# Altium integrated library Silicon Labs Clocks and Oscillators.IntLib: 678 symbols (part 10 of 45)
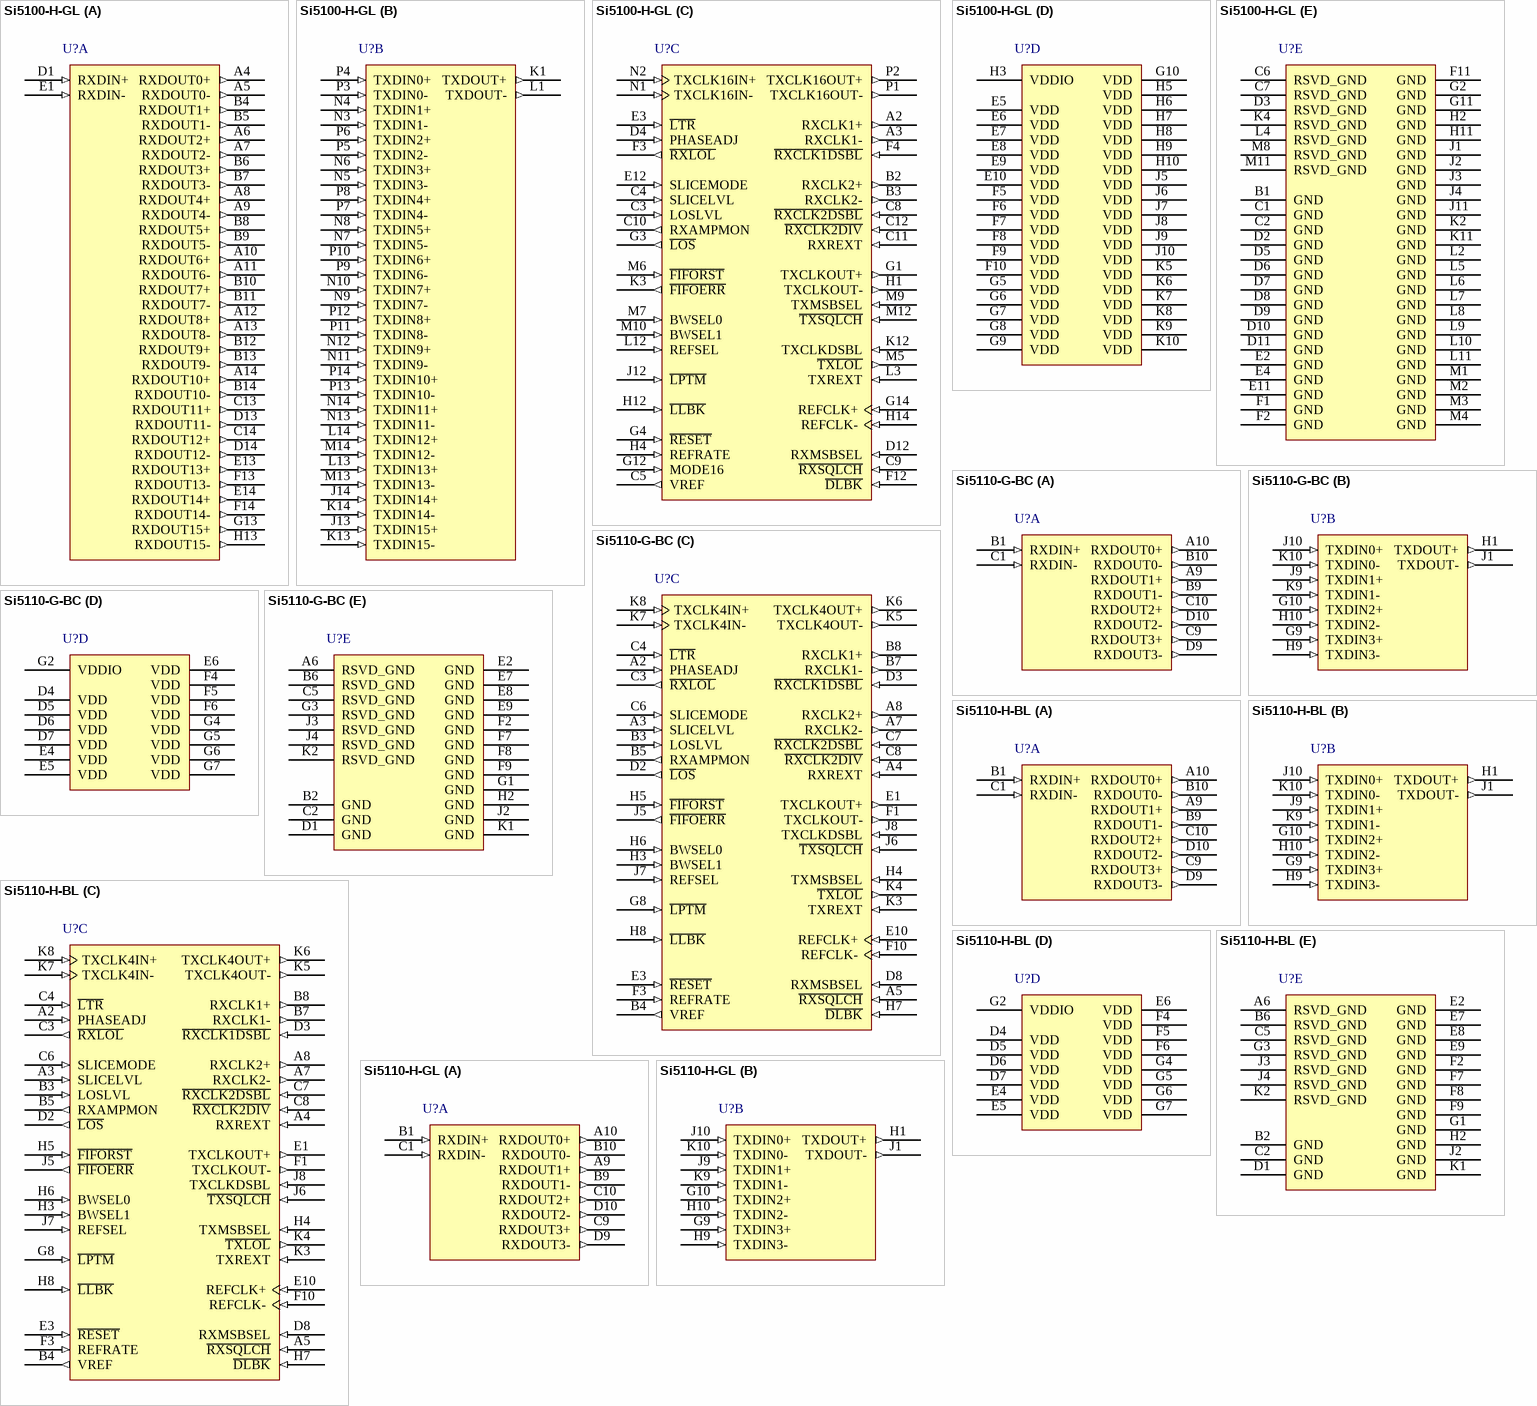
[diagram p53: symbols Si5100-H-GL to Si5110-H-GL]

## Si5100-H-GL
designator U?
SiPHY(R) OC-48 / STM-16 SONET / SDH Transceiver, 1.8 V, -20 to 85 degC, 195-pin BGA; Manufacturer: Silicon Labs; PartNumber: Si5100-H-GL; Sub-Family: CDR/PHYs; DatasheetVersion: Rev. 1.5; PackageReference: PBGA-195; PackageDescription: 195-Ball Plastic Ball Grid Array, Body 15 x 15 mm, Pitch 1 mm; Supplier 1: Digi-Key; Supplier Part Number 1: SI5100-H-GL-ND; Supplier 2: Mouser; Supplier Part Number 2: 634-SI5100-H-GL; Mounting Technology: Surface Mount; Code_JEDEC: MO-192; Code_IPC: J-STD-020C; ComponentLink1Description: Manufacturer URL; ComponentLink1URL: http://www.silabs.com/; ComponentLink2Description: Datasheet; ComponentLink2URL: http://www.silabs.com/Support Documents/TechnicalDocs/si5100.pdf; ComponentLink3Description: Package Specification; ComponentLink3URL: http://www.silabs.com/Support Documents/TechnicalDocs/si5100.pdf
footprint SLAB-PBGA-195 (BGA, 195-Balls, Body 15x15mm, Pitch 1mm)
part A pins: A4 RXDOUT0+ (out) "Differential Parallel Receive Data Output.", A5 RXDOUT0- (out) "Differential Parallel Receive Data Output.", A6 RXDOUT2+ (out) "Differential Parallel Receive Data Output.", A7 RXDOUT2- (out) "Differential Parallel Receive Data Output.", A8 RXDOUT4+ (out) "Differential Parallel Receive Data Output.", A9 RXDOUT4- (out) "Differential Parallel Receive Data Output.", A10 RXDOUT6+ (out) "Differential Parallel Receive Data Output.", A11 RXDOUT6- (out) "Differential Parallel Receive Data Output.", A12 RXDOUT8+ (out) "Differential Parallel Receive Data Output.", A13 RXDOUT8- (out) "Differential Parallel Receive Data Output.", A14 RXDOUT10+ (out) "Differential Parallel Receive Data Output.", B4 RXDOUT1+ (out) "Differential Parallel Receive Data Output.", B5 RXDOUT1- (out) "Differential Parallel Receive Data Output.", B6 RXDOUT3+ (out) "Differential Parallel Receive Data Output.", B7 RXDOUT3- (out) "Differential Parallel Receive Data Output.", B8 RXDOUT5+ (out) "Differential Parallel Receive Data Output.", B9 RXDOUT5- (out) "Differential Parallel Receive Data Output.", B10 RXDOUT7+ (out) "Differential Parallel Receive Data Output.", B11 RXDOUT7- (out) "Differential Parallel Receive Data Output.", B12 RXDOUT9+ (out) "Differential Parallel Receive Data Output.", B13 RXDOUT9- (out) "Differential Parallel Receive Data Output.", B14 RXDOUT10- (out) "Differential Parallel Receive Data Output.", C13 RXDOUT11+ (out) "Differential Parallel Receive Data Output.", C14 RXDOUT12+ (out) "Differential Parallel Receive Data Output.", D1 RXDIN+ (in) "Differential Receive Data Input.", D13 RXDOUT11- (out) "Differential Parallel Receive Data Output.", D14 RXDOUT12- (out) "Differential Parallel Receive Data Output.", E1 RXDIN- (in) "Differential Receive Data Input.", E13 RXDOUT13+ (out) "Differential Parallel Receive Data Output.", E14 RXDOUT14+ (out) "Differential Parallel Receive Data Output.", F13 RXDOUT13- (out) "Differential Parallel Receive Data Output.", F14 RXDOUT14- (out) "Differential Parallel Receive Data Output.", G13 RXDOUT15+ (out) "Differential Parallel Receive Data Output.", H13 RXDOUT15- (out) "Differential Parallel Receive Data Output."
part B pins: J13 TXDIN15+ (in) "Differential Parallel Transmit Data Input.", J14 TXDIN14+ (in) "Differential Parallel Transmit Data Input.", K1 TXDOUT+ (out) "Differential High-Speed Transmit Data Output.", K13 TXDIN15- (in) "Differential Parallel Transmit Data Input.", K14 TXDIN14- (in) "Differential Parallel Transmit Data Input.", L1 TXDOUT- (out) "Differential High-Speed Transmit Data Output.", L13 TXDIN13+ (in) "Differential Parallel Transmit Data Input.", L14 TXDIN12+ (in) "Differential Parallel Transmit Data Input.", M13 TXDIN13- (in) "Differential Parallel Transmit Data Input.", M14 TXDIN12- (in) "Differential Parallel Transmit Data Input.", N3 TXDIN1- (in) "Differential Parallel Transmit Data Input.", N4 TXDIN1+ (in) "Differential Parallel Transmit Data Input.", N5 TXDIN3- (in) "Differential Parallel Transmit Data Input.", N6 TXDIN3+ (in) "Differential Parallel Transmit Data Input.", N7 TXDIN5- (in) "Differential Parallel Transmit Data Input.", N8 TXDIN5+ (in) "Differential Parallel Transmit Data Input.", N9 TXDIN7- (in) "Differential Parallel Transmit Data Input.", N10 TXDIN7+ (in) "Differential Parallel Transmit Data Input.", N11 TXDIN9- (in) "Differential Parallel Transmit Data Input.", N12 TXDIN9+ (in) "Differential Parallel Transmit Data Input.", N13 TXDIN11- (in) "Differential Parallel Transmit Data Input.", N14 TXDIN11+ (in) "Differential Parallel Transmit Data Input.", P3 TXDIN0- (in) "Differential Parallel Transmit Data Input.", P4 TXDIN0+ (in) "Differential Parallel Transmit Data Input.", P5 TXDIN2- (in) "Differential Parallel Transmit Data Input.", P6 TXDIN2+ (in) "Differential Parallel Transmit Data Input.", P7 TXDIN4- (in) "Differential Parallel Transmit Data Input.", P8 TXDIN4+ (in) "Differential Parallel Transmit Data Input.", P9 TXDIN6- (in) "Differential Parallel Transmit Data Input.", P10 TXDIN6+ (in) "Differential Parallel Transmit Data Input.", P11 TXDIN8- (in) "Differential Parallel Transmit Data Input.", P12 TXDIN8+ (in) "Differential Parallel Transmit Data Input.", P13 TXDIN10- (in) "Differential Parallel Transmit Data Input.", P14 TXDIN10+ (in) "Differential Parallel Transmit Data Input."
part C pins: A2 RXCLK1+ (out) "Differential Receiver Clock Output 1.", A3 RXCLK1- (out) "Differential Receiver Clock Output 1.", B2 RXCLK2+ (out) "Differential Receiver Clock Output 2.", B3 RXCLK2- (out) "Differential Receiver Clock Output 2.", C3 LOSLVL (in) "LOS Threshold Level.", C4 SLICELVL (in) "Slicing Level Adjustment", C5 VREF (out) "Voltage Reference.", C8 ~{RXCLK2DSBL} (in) "RXCLK2 Disable.", C9 ~{RXSQLCH} (in) "Receiver Data Squelch.", C10 RXAMPMON (out) "Receiver Amplitude Monitor.", C11 RXREXT (in) "Receiver External Bias Resistor.", C12 ~{RXCLK2DIV} (in) "RXCLK2 Clock Divider Select.", D4 PHASEADJ (in) "Sampling Phase Adjust", D12 RXMSBSEL (in) "Receive Data Bus Bit Order Select.", E3 ~{LTR} (in) "Lock-to-Reference.", E12 SLICEMODE (in) "Slice Level Adjustment Mode", F3 ~{RXLOL} (out) "Receiver Loss-of-Lock.", F4 ~{RXCLK1DSBL} (in) "RXCLK1 Disable.", F12 ~{DLBK} (in) "Diagnostic Loopback.", G1 TXCLKOUT+ (out) "High-Speed Transmit Clock Output.", G3 ~{LOS} (out) "Loss-of-Signal.", G4 ~{RESET} (in) "Device Reset.", G12 MODE16 (in) "MUX/DEMUX Mode", G14 REFCLK+ (in) "Differential Reference Clock.", H1 TXCLKOUT- (out) "High-Speed Transmit Clock Output.", H4 REFRATE (in) "Reference Clock Rate Select.", H12 ~{LLBK} (in) "Line Loopback.", H14 REFCLK- (in) "Differential Reference Clock.", J12 ~{LPTM} (in) "Loop Timed Operation.", K3 ~{FIFOERR} (out) "FIFO Error.", K12 TXCLKDSBL (in) "High-Speed Transmit Clock Disable.", L3 TXREXT (in) "Transmitter External Bias Resistor.", L12 REFSEL (in) "Reference Clock Selection.", M5 ~{TXLOL} (out) "Transmit CMU Loss-of-Lock.", M6 ~{FIFORST} (in) "FIFO RESET.", M7 BWSEL0 (in) "Transmit DSPLL Bandwidth Select", M9 TXMSBSEL (in) "Transmit Data Bus Bit Order Select.", M10 BWSEL1 (in) "Transmit DSPLL Bandwidth Select", M12 ~{TXSQLCH} (in) "Transmit Data Squelch.", N1 TXCLK16IN- (in) "Differential Transmit Data Clock Input.", N2 TXCLK16IN+ (in) "Differential Transmit Data Clock Input.", P1 TXCLK16OUT- (out) "Divided Down Transmit Output Clock.", P2 TXCLK16OUT+ (out) "Divided Down Transmit Output Clock."
part D pins: E5 VDD (power) "Supply Voltage.", E6 VDD (power) "Supply Voltage.", E7 VDD (power) "Supply Voltage.", E8 VDD (power) "Supply Voltage.", E9 VDD (power) "Supply Voltage.", E10 VDD (power) "Supply Voltage.", F5 VDD (power) "Supply Voltage.", F6 VDD (power) "Supply Voltage.", F7 VDD (power) "Supply Voltage.", F8 VDD (power) "Supply Voltage.", F9 VDD (power) "Supply Voltage.", F10 VDD (power) "Supply Voltage.", G5 VDD (power) "Supply Voltage.", G6 VDD (power) "Supply Voltage.", G7 VDD (power) "Supply Voltage.", G8 VDD (power) "Supply Voltage.", G9 VDD (power) "Supply Voltage.", G10 VDD (power) "Supply Voltage.", H3 VDDIO (power) "LVTTL I/O Supply Voltage.", H5 VDD (power) "Supply Voltage.", H6 VDD (power) "Supply Voltage.", H7 VDD (power) "Supply Voltage.", H8 VDD (power) "Supply Voltage.", H9 VDD (power) "Supply Voltage.", H10 VDD (power) "Supply Voltage.", J5 VDD (power) "Supply Voltage.", J6 VDD (power) "Supply Voltage.", J7 VDD (power) "Supply Voltage.", J8 VDD (power) "Supply Voltage.", J9 VDD (power) "Supply Voltage.", J10 VDD (power) "Supply Voltage.", K5 VDD (power) "Supply Voltage.", K6 VDD (power) "Supply Voltage.", K7 VDD (power) "Supply Voltage.", K8 VDD (power) "Supply Voltage.", K9 VDD (power) "Supply Voltage.", K10 VDD (power) "Supply Voltage."
part E pins: B1 GND (power) "Supply Ground.", C1 GND (power) "Supply Ground.", C2 GND (power) "Supply Ground.", C6 RSVD_GND (power) "Reserved Tie to Ground.", C7 RSVD_GND (power) "Reserved Tie to Ground.", D2 GND (power) "Supply Ground.", D3 RSVD_GND (power) "Reserved Tie to Ground.", D5 GND (power) "Supply Ground.", D6 GND (power) "Supply Ground.", D7 GND (power) "Supply Ground.", D8 GND (power) "Supply Ground.", D9 GND (power) "Supply Ground.", D10 GND (power) "Supply Ground.", D11 GND (power) "Supply Ground.", E2 GND (power) "Supply Ground.", E4 GND (power) "Supply Ground.", E11 GND (power) "Supply Ground.", F1 GND (power) "Supply Ground.", F2 GND (power) "Supply Ground.", F11 GND (power) "Supply Ground.", G2 GND (power) "Supply Ground.", G11 GND (power) "Supply Ground.", H2 GND (power) "Supply Ground.", H11 GND (power) "Supply Ground.", J1 GND (power) "Supply Ground.", J2 GND (power) "Supply Ground.", J3 GND (power) "Supply Ground.", J4 GND (power) "Supply Ground.", J11 GND (power) "Supply Ground.", K2 GND (power) "Supply Ground.", K4 RSVD_GND (power) "Reserved Tie to Ground.", K11 GND (power) "Supply Ground.", L2 GND (power) "Supply Ground.", L4 RSVD_GND (power) "Reserved Tie to Ground.", L5 GND (power) "Supply Ground.", L6 GND (power) "Supply Ground.", L7 GND (power) "Supply Ground.", L8 GND (power) "Supply Ground.", L9 GND (power) "Supply Ground.", L10 GND (power) "Supply Ground.", L11 GND (power) "Supply Ground.", M1 GND (power) "Supply Ground.", M2 GND (power) "Supply Ground.", M3 GND (power) "Supply Ground.", M4 GND (power) "Supply Ground.", M8 RSVD_GND (power) "Reserved Tie to Ground.", M11 RSVD_GND (power) "Reserved Tie to Ground."

## Si5110-G-BC
designator U?
SiPHY(R) OC-48 / STM-16 SONET / SDH Transceiver, 1.8 V, -20 to 85 degC, 99-pin BGA; Manufacturer: Silicon Labs; PartNumber: Si5110-G-BC; Sub-Family: CDR/PHYs; DatasheetVersion: Rev. 1.5; PackageReference: CBGA-99; PackageDescription: 99-Ball Ceramic Ball Grid Array, Body 11 x 11 mm, Pitch 1 mm; Supplier 1: Digi-Key; Supplier Part Number 1: 336-1181-ND; Supplier 2: Mouser; Supplier Part Number 2: 634-SI5110-G-BC; Mounting Technology: Surface Mount; Code_JEDEC: MO-192; Code_IPC: J-STD-020C; ComponentLink1Description: Manufacturer URL; ComponentLink1URL: http://www.silabs.com/; ComponentLink2Description: Datasheet; ComponentLink2URL: http://www.silabs.com/Support Documents/TechnicalDocs/si5110.pdf; ComponentLink3Description: Package Specification; ComponentLink3URL: http://www.silabs.com/Support Documents/TechnicalDocs/si5110.pdf
footprint SLAB-CBGA-99 (BGA, 99-Balls, Body 11x11mm, Pitch 1mm)
part A pins: A9 RXDOUT1+ (out) "Differential Parallel Receive Data Output.The data recovered from the signal present on RXDIN is demultiplexed and output as a 4-bit parallel word via RXDOUT[3:0]. The bit order for demultiplexing is selected by the RXMSBSEL (See Datasheet)", A10 RXDOUT0+ (out) "Differential Parallel Receive Data Output.The data recovered from the signal present on RXDIN is demultiplexed and output as a 4-bit parallel word via RXDOUT[3:0]. The bit order for demultiplexing is selected by the RXMSBSEL (See Datasheet)", B1 RXDIN+ (in) "Differential Receive Data Input.The receive clock and data signals RXCLK1,RXCLK2, and RXDOUT[3:0] are recovered from the high-speed data signal present on these pins.", B9 RXDOUT1- (out) "Differential Parallel Receive Data Output.The data recovered from the signal present on RXDIN is demultiplexed and output as a 4-bit parallel word via RXDOUT[3:0]. The bit order for demultiplexing is selected by the RXMSBSEL (See Datasheet)", B10 RXDOUT0- (out) "Differential Parallel Receive Data Output.The data recovered from the signal present on RXDIN is demultiplexed and output as a 4-bit parallel word via RXDOUT[3:0]. The bit order for demultiplexing is selected by the RXMSBSEL (See Datasheet)", C1 RXDIN- (in) "Differential Receive Data Input.The receive clock and data signals RXCLK1,RXCLK2, and RXDOUT[3:0] are recovered from the high-speed data signal present on these pins.", C9 RXDOUT3+ (out) "Differential Parallel Receive Data Output.The data recovered from the signal present on RXDIN is demultiplexed and output as a 4-bit parallel word via RXDOUT[3:0]. The bit order for demultiplexing is selected by the RXMSBSEL (See Datasheet)", C10 RXDOUT2+ (out) "Differential Parallel Receive Data Output.The data recovered from the signal present on RXDIN is demultiplexed and output as a 4-bit parallel word via RXDOUT[3:0]. The bit order for demultiplexing is selected by the RXMSBSEL (See Datasheet)", D9 RXDOUT3- (out) "Differential Parallel Receive Data Output.The data recovered from the signal present on RXDIN is demultiplexed and output as a 4-bit parallel word via RXDOUT[3:0]. The bit order for demultiplexing is selected by the RXMSBSEL (See Datasheet)", D10 RXDOUT2- (out) "Differential Parallel Receive Data Output.The data recovered from the signal present on RXDIN is demultiplexed and output as a 4-bit parallel word via RXDOUT[3:0]. The bit order for demultiplexing is selected by the RXMSBSEL (See Datasheet)"
part B pins: G9 TXDIN3+ (in) "Differential Parallel Transmit Data Input.The 4-bit data word present on these pins is multiplexed into a high-speed serial stream and output on TXDOUT. The bit order for transmit multiplexing is selected by the TXMSBSEL (See Datasheet)", G10 TXDIN2+ (in) "Differential Parallel Transmit Data Input.The 4-bit data word present on these pins is multiplexed into a high-speed serial stream and output on TXDOUT. The bit order for transmit multiplexing is selected by the TXMSBSEL (See Datasheet)", H1 TXDOUT+ (out) "Differential High-Speed Transmit Data Output.The 4-bit word input on TXDIN[3:0] is multiplexed into a high-speed serial stream that is output on the TXDOUT pins. The bit order for transmit multiplexing is selected by the (See Datasheet)", H9 TXDIN3- (in) "Differential Parallel Transmit Data Input.The 4-bit data word present on these pins is multiplexed into a high-speed serial stream and output on TXDOUT. The bit order for transmit multiplexing is selected by the TXMSBSEL (See Datasheet)", H10 TXDIN2- (in) "Differential Parallel Transmit Data Input.The 4-bit data word present on these pins is multiplexed into a high-speed serial stream and output on TXDOUT. The bit order for transmit multiplexing is selected by the TXMSBSEL (See Datasheet)", J1 TXDOUT- (out) "Differential High-Speed Transmit Data Output.The 4-bit word input on TXDIN[3:0] is multiplexed into a high-speed serial stream that is output on the TXDOUT pins. The bit order for transmit multiplexing is selected by the (See Datasheet)", J9 TXDIN1+ (in) "Differential Parallel Transmit Data Input.The 4-bit data word present on these pins is multiplexed into a high-speed serial stream and output on TXDOUT. The bit order for transmit multiplexing is selected by the TXMSBSEL (See Datasheet)", J10 TXDIN0+ (in) "Differential Parallel Transmit Data Input.The 4-bit data word present on these pins is multiplexed into a high-speed serial stream and output on TXDOUT. The bit order for transmit multiplexing is selected by the TXMSBSEL (See Datasheet)", K9 TXDIN1- (in) "Differential Parallel Transmit Data Input.The 4-bit data word present on these pins is multiplexed into a high-speed serial stream and output on TXDOUT. The bit order for transmit multiplexing is selected by the TXMSBSEL (See Datasheet)", K10 TXDIN0- (in) "Differential Parallel Transmit Data Input.The 4-bit data word present on these pins is multiplexed into a high-speed serial stream and output on TXDOUT. The bit order for transmit multiplexing is selected by the TXMSBSEL (See Datasheet)"
part C pins: A2 PHASEADJ (in) "Sampling Phase Adjust.Applying an analog voltage to this pin allows adjustment of the sampling phase across the data eye.Tieing this input to VREF nominally centers the sampling phase.", A3 SLICELVL (in) "Slicing Level Adjustment.Applying an analog voltage to this pin allows adjustment of the slicing level applied to the input data eye.Tying this input to VREF sets the slicing offset to 0.", A4 RXREXT (in) "Receiver External Bias Resistor.This resistor is used by the receiver circuitry to establish bias currents within the device. This pin must be connected to GND through a 3.09 kohm (1%)resistor", A5 ~{RXSQLCH} (in) "Receiver Data Squelch.When this input is low, the data on RXDOUT[3:0] is forced to a zero state. Set R\X\S\Q\L\C\H\ high for normal operation.The R\X\S\Q\L\C\H\ input is ignored when operating in Diagnostic Loopback mode (See Datasheet)", A7 RXCLK2- (out) "Differential Receiver Clock Output 2.An auxiliary output clock is provided on this pin that is equivalent to, or a submultiple of, the output word rate. The divide factor used in generating RXCLK2 is set via RXCLK2DIV.", A8 RXCLK2+ (out) "Differential Receiver Clock Output 2.An auxiliary output clock is provided on this pin that is equivalent to, or a submultiple of, the output word rate. The divide factor used in generating RXCLK2 is set via RXCLK2DIV.", B3 LOSLVL (in) "LOS Threshold Level.Applying an analog voltage to this pin allows adjustment of the Threshold used to declare L\O\S\. Tieing this input to VREF disables L\O\S\ detection and forces the L\O\S\ output high.", B4 VREF (out) "Voltage Reference.The Si5110 provides an output voltage reference that can be used by an external circuit to set the LOS threshold, slicing level, or sampling phase adjustment.The equivalent resistance between this pin and (See Datasheet)", B5 RXAMPMON (out) "Receiver Amplitude Monitor.The RXAMPMON output provides an analog output signal that is proportional to the input signal amplitude. See Equation 1 for the relationship between RXAMPON and RXDIN. This signal is active when (See Datasheet)", B7 RXCLK1- (out) "Differential Receiver Clock Output 1.The clock recovered from the signal present on RXDIN is divided down to the parallel output word rate and output on RXCLK1. In the absence of data, a stable clock on RXCLK1 can be (See Datasheet)", B8 RXCLK1+ (out) "Differential Receiver Clock Output 1.The clock recovered from the signal present on RXDIN is divided down to the parallel output word rate and output on RXCLK1. In the absence of data, a stable clock on RXCLK1 can be (See Datasheet)", C3 ~{RXLOL} (out) "Receiver Loss-of-Lock.This output is asserted (driven low) when the recovered clock frequency deviates from the reference clock by the amount specified in Table 5 on page 9.", C4 ~{LTR} (in) "Lock-to-Reference.When the L\T\R\ input is set low, the receiver PLL will lock to the selected reference clock. This function can be used to force a stable output clock on the RXCLK1 and RXCLK2 outputs when no valid input (See Datasheet)", C6 SLICEMODE (in) "Slice Level Adjustment Mode.The SLICEMODE input is used to select the mode of operation for slicing level adjustment. When SLICEMODE = 0, Absolute Slice mode is selected. When SLICEMODE = 1, Proportional Slice mode is (See Datasheet)", C7 ~{RXCLK2DSBL} (in) "RXCLK2 Disable.Setting this input low disables the RXCLK2 output.This saves power in applications that do not require an auxiliary clock.Note: This input has an internal pullup", C8 ~{RXCLK2DIV} (in) "RXCLK2 Clock Divider Select.This input selects the divide factor used to generate the RXCLK2 output. When this input is driven high,RXCLK2 is equal to the output word rate on RXDOUT.When driven low, RXCLK2 is 1/4th the (See Datasheet)", D2 ~{LOS} (out) "Loss-of-Signal.This output is asserted (driven low) when the peak-topeak signal amplitude on RXDIN is below the threshold set via LOSLVL.", D3 ~{RXCLK1DSBL} (in) "RXCLK1 Disable.Setting this input low disables the RXCLK1 output.This is used to save power in applications that do not require the primary output clock.Note: This input has an internal pullup", D8 RXMSBSEL (in) "Receive Data Bus Bit Order Select.This input determines the order of the received data bits on the RXDOUT[3:0] output bus.For RXMSBSEL = 0, the first data bit received is output on RXDOUT0 and following data bits are output (See Datasheet)", E1 TXCLKOUT+ (out) "High-Speed Transmit Clock Output.The high-speed clock output, TXCLKOUT, is generated by the PLL in the transmit clock multiplier unit. Its frequency is nominally 16 times or 32 times the selected reference source.", E3 ~{RESET} (in) "Device Reset.Forcing this input low for at least 1 ?s causes a device reset. For normal operation, this pin should be held high.Note: This input has an internal pullup.", E10 REFCLK+ (in) "Differential Reference Clock.This input is used as the Si5110 reference clock when the REFSEL input is set high (REFSEL = 1). The reference clock sets the operating frequency of the Si5110 transmit CMU, which is used to (See Datasheet)", F1 TXCLKOUT- (out) "High-Speed Transmit Clock Output.The high-speed clock output, TXCLKOUT, is generated by the PLL in the transmit clock multiplier unit. Its frequency is nominally 16 times or 32 times the selected reference source.", F3 REFRATE (in) "Reference Clock Rate Select.The REFRATE input sets the frequency for the REFCLK input. When REFRATE is set high, the REFCLK frequency is 1/16th the serial data rate (nominally 155 MHz). When REFRATE is set low, the REFCLK (See Datasheet)", F10 REFCLK- (in) "Differential Reference Clock.This input is used as the Si5110 reference clock when the REFSEL input is set high (REFSEL = 1). The reference clock sets the operating frequency of the Si5110 transmit CMU, which is used to (See Datasheet)", G8 ~{LPTM} (in) "Loop Timed Operation. When this input is set low, the recovered clock from the receiver is divided down and used as the reference source for the transmit CMU. The narrowband setting for the DSPLL CMU is sufficient to provide (See Datasheet)", H3 BWSEL1 (in) "Transmit DSPLL Bandwidth Select.The inputs select loop bandwidth of the Transmit Clock Multiplier DSPLL as listed in Table 6.Note: Both inputs have an internal pulldown", H4 TXMSBSEL (in) "Transmit Data Bus Bit Order Select.This input determines the order in which data bits recovered on the TXDIN[3:0] bus are transmitted on the high-speed serial output TXDOUT.For TXMSBSEL = 0, data on TXDIN0 is transmitted (See Datasheet)", H5 ~{FIFORST} (in) "FIFO RESET.When this input is low, the read/write FIFO pointers are reset to their initial state.Note: This input has an internal pullup.", H6 BWSEL0 (in) "Transmit DSPLL Bandwidth Select.The inputs select loop bandwidth of the Transmit Clock Multiplier DSPLL as listed in Table 6.Note: Both inputs have an internal pulldown", H7 ~{DLBK} (in) "Diagnostic Loopback.When this input is low, the transmit clock and data are looped back for output on RXDOUT, RXCLK1 and RXCLK2. This pin should be held high for normal operation.Note: This input has an internal pullup", H8 ~{LLBK} (in) "Line Loopback.When this input is low, the recovered clock and data are looped back for output on TXDOUT, and TXCLKOUT.Set this pin high for normal operation.Note: This input has an internal pullup", J5 ~{FIFOERR} (out) "FIFO Error.This output is asserted (driven low) when a FIFO overflow/underflow has occurred. This output is low until reset by asserting FIFORST.", J6 ~{TXSQLCH} (in) "Transmit Data Squelch.When T\X\S\Q\L\C\H\ is set low, the output data stream on TXDOUT is forced to a zero state. Set T\X\S\Q\L\C\H\ high for normal operation. The T\X\S\Q\L\C\H\ input is ignored when operating in Line (See Datasheet)", J7 REFSEL (in) "Reference Clock Selection.This input selects the reference clock source to be used by the Si5110 transmitter and receiver. The reference clock sets the operating frequency of the Si5110 transmit CMU, which is used to (See Datasheet)", J8 TXCLKDSBL (in) "High-Speed Transmit Clock Disable.When this input is high, the output driver for TXCLKOUT is disabled. In applications that do not require the output data clock, the output clock driver should be disabled to save power.Note: (See Datasheet)", K3 TXREXT (in) "Transmitter External Bias Resistor.This resistor is used by the transmitter circuitry to establish bias currents within the device. This pin must be connected to GND through a 3.09 kohm (1%) resistor.", K4 ~{TXLOL} (out) "Transmit CMU Loss-of-Lock.The T\X\L\O\L\ output is asserted (low) when the CMU is not phase locked to the selected reference source or if REFCLK is not present.", K5 TXCLK4OUT- (out) "Divided Down Transmit Clock Output.This clock output is generated by dividing down the high-speed output clock, TXCLKOUT, by a factor of 4.It is intended for use in counter clocking schemes that transfer data between the (See Datasheet)", K6 TXCLK4OUT+ (out) "Divided Down Transmit Clock Output.This clock output is generated by dividing down the high-speed output clock, TXCLKOUT, by a factor of 4.It is intended for use in counter clocking schemes that transfer data between the (See Datasheet)", K7 TXCLK4IN- (in) "Differential Transmit Data Clock Input.The rising edge of this input clocks data present on TXDIN into the device. TXCLK 4IN is also used as the Si5100 reference clock when the REFSEL input is set low.", K8 TXCLK4IN+ (in) "Differential Transmit Data Clock Input.The rising edge of this input clocks data present on TXDIN into the device. TXCLK 4IN is also used as the Si5100 reference clock when the REFSEL input is set low."
part D pins: D4 VDD (power) "Supply Voltage.Nominally 1.8 V.", D5 VDD (power) "Supply Voltage.Nominally 1.8 V.", D6 VDD (power) "Supply Voltage.Nominally 1.8 V.", D7 VDD (power) "Supply Voltage.Nominally 1.8 V.", E4 VDD (power) "Supply Voltage.Nominally 1.8 V.", E5 VDD (power) "Supply Voltage.Nominally 1.8 V.", E6 VDD (power) "Supply Voltage.Nominally 1.8 V.", F4 VDD (power) "Supply Voltage.Nominally 1.8 V.", F5 VDD (power) "Supply Voltage.Nominally 1.8 V.", F6 VDD (power) "Supply Voltage.Nominally 1.8 V.", G2 VDDIO (power) "LVTTL I/O Supply Voltage.Connect to either 1.8 or 3.3 V. When connected to 3.3 V, LVTTL compatible voltage swings are supported on the LVTTL inputs and LVTTL outputs of the device.", G4 VDD (power) "Supply Voltage.Nominally 1.8 V.", G5 VDD (power) "Supply Voltage.Nominally 1.8 V.", G6 VDD (power) "Supply Voltage.Nominally 1.8 V.", G7 VDD (power) "Supply Voltage.Nominally 1.8 V."
part E pins: A6 RSVD_GND (power) "Reserved Tie To Ground.Must be connected directly to GND for proper operation.", B2 GND (power) "Supply Ground.Connect to system GND. Ensure a very low impedance path for optimal performance", B6 RSVD_GND (power) "Reserved Tie To Ground.Must be connected directly to GND for proper operation.", C2 GND (power) "Supply Ground.Connect to system GND. Ensure a very low impedance path for optimal performance", C5 RSVD_GND (power) "Reserved Tie To Ground.Must be connected directly to GND for proper operation.", D1 GND (power) "Supply Ground.Connect to system GND. Ensure a very low impedance path for optimal performance", E2 GND (power) "Supply Ground.Connect to system GND. Ensure a very low impedance path for optimal performance", E7 GND (power) "Supply Ground.Connect to system GND. Ensure a very low impedance path for optimal performance", E8 GND (power) "Supply Ground.Connect to system GND. Ensure a very low impedance path for optimal performance", E9 GND (power) "Supply Ground.Connect to system GND. Ensure a very low impedance path for optimal performance", F2 GND (power) "Supply Ground.Connect to system GND. Ensure a very low impedance path for optimal performance", F7 GND (power) "Supply Ground.Connect to system GND. Ensure a very low impedance path for optimal performance", F8 GND (power) "Supply Ground.Connect to system GND. Ensure a very low impedance path for optimal performance", F9 GND (power) "Supply Ground.Connect to system GND. Ensure a very low impedance path for optimal performance", G1 GND (power) "Supply Ground.Connect to system GND. Ensure a very low impedance path for optimal performance", G3 RSVD_GND (power) "Reserved Tie To Ground.Must be connected directly to GND for proper operation.", H2 GND (power) "Supply Ground.Connect to system GND. Ensure a very low impedance path for optimal performance", J2 GND (power) "Supply Ground.Connect to system GND. Ensure a very low impedance path for optimal performance", J3 RSVD_GND (power) "Reserved Tie To Ground.Must be connected directly to GND for proper operation.", J4 RSVD_GND (power) "Reserved Tie To Ground.Must be connected directly to GND for proper operation.", K1 GND (power) "Supply Ground.Connect to system GND. Ensure a very low impedance path for optimal performance", K2 RSVD_GND (power) "Reserved Tie To Ground.Must be connected directly to GND for proper operation."

## Si5110-H-BL
designator U?
SiPHY(R) OC-48 / STM-16 SONET / SDH Transceiver, 1.8 V, -20 to 85 degC, 99-pin BGA; Manufacturer: Silicon Labs; PartNumber: Si5110-H-BL; Sub-Family: CDR/PHYs; DatasheetVersion: Rev. 1.5; PackageReference: PBGA-99; PackageDescription: 99-Ball Plastic Ball Grid Array, Body 11 x 11 mm, Pitch 1 mm; Supplier 1: Digi-Key; Supplier Part Number 1: SI5110-H-BL-ND; Supplier 2: Mouser; Supplier Part Number 2: 634-SI5110-H-BL; Mounting Technology: Surface Mount; Code_JEDEC: MO-192; Code_IPC: J-STD-020C; ComponentLink1Description: Manufacturer URL; ComponentLink1URL: http://www.silabs.com/; ComponentLink2Description: Datasheet; ComponentLink2URL: http://www.silabs.com/Support Documents/TechnicalDocs/si5110.pdf; ComponentLink3Description: Package Specification; ComponentLink3URL: http://www.silabs.com/Support%20Documents/TechnicalDocs/si5364.pdf
footprint SLAB-PBGA-99 (BGA, 99-Balls, Body 11x11mm, Pitch 1mm)
part A pins: A9 RXDOUT1+ (out) "Differential Parallel Receive Data Output.The data recovered from the signal present on RXDIN is demultiplexed and output as a 4-bit parallel word via RXDOUT[3:0]. The bit order for demultiplexing is selected by the RXMSBSEL (See Datasheet)", A10 RXDOUT0+ (out) "Differential Parallel Receive Data Output.The data recovered from the signal present on RXDIN is demultiplexed and output as a 4-bit parallel word via RXDOUT[3:0]. The bit order for demultiplexing is selected by the RXMSBSEL (See Datasheet)", B1 RXDIN+ (in) "Differential Receive Data Input.The receive clock and data signals RXCLK1,RXCLK2, and RXDOUT[3:0] are recovered from the high-speed data signal present on these pins.", B9 RXDOUT1- (out) "Differential Parallel Receive Data Output.The data recovered from the signal present on RXDIN is demultiplexed and output as a 4-bit parallel word via RXDOUT[3:0]. The bit order for demultiplexing is selected by the RXMSBSEL (See Datasheet)", B10 RXDOUT0- (out) "Differential Parallel Receive Data Output.The data recovered from the signal present on RXDIN is demultiplexed and output as a 4-bit parallel word via RXDOUT[3:0]. The bit order for demultiplexing is selected by the RXMSBSEL (See Datasheet)", C1 RXDIN- (in) "Differential Receive Data Input.The receive clock and data signals RXCLK1,RXCLK2, and RXDOUT[3:0] are recovered from the high-speed data signal present on these pins.", C9 RXDOUT3+ (out) "Differential Parallel Receive Data Output.The data recovered from the signal present on RXDIN is demultiplexed and output as a 4-bit parallel word via RXDOUT[3:0]. The bit order for demultiplexing is selected by the RXMSBSEL (See Datasheet)", C10 RXDOUT2+ (out) "Differential Parallel Receive Data Output.The data recovered from the signal present on RXDIN is demultiplexed and output as a 4-bit parallel word via RXDOUT[3:0]. The bit order for demultiplexing is selected by the RXMSBSEL (See Datasheet)", D9 RXDOUT3- (out) "Differential Parallel Receive Data Output.The data recovered from the signal present on RXDIN is demultiplexed and output as a 4-bit parallel word via RXDOUT[3:0]. The bit order for demultiplexing is selected by the RXMSBSEL (See Datasheet)", D10 RXDOUT2- (out) "Differential Parallel Receive Data Output.The data recovered from the signal present on RXDIN is demultiplexed and output as a 4-bit parallel word via RXDOUT[3:0]. The bit order for demultiplexing is selected by the RXMSBSEL (See Datasheet)"
part B pins: G9 TXDIN3+ (in) "Differential Parallel Transmit Data Input.The 4-bit data word present on these pins is multiplexed into a high-speed serial stream and output on TXDOUT. The bit order for transmit multiplexing is selected by the TXMSBSEL (See Datasheet)", G10 TXDIN2+ (in) "Differential Parallel Transmit Data Input.The 4-bit data word present on these pins is multiplexed into a high-speed serial stream and output on TXDOUT. The bit order for transmit multiplexing is selected by the TXMSBSEL (See Datasheet)", H1 TXDOUT+ (out) "Differential High-Speed Transmit Data Output.The 4-bit word input on TXDIN[3:0] is multiplexed into a high-speed serial stream that is output on the TXDOUT pins. The bit order for transmit multiplexing is selected by the (See Datasheet)", H9 TXDIN3- (in) "Differential Parallel Transmit Data Input.The 4-bit data word present on these pins is multiplexed into a high-speed serial stream and output on TXDOUT. The bit order for transmit multiplexing is selected by the TXMSBSEL (See Datasheet)", H10 TXDIN2- (in) "Differential Parallel Transmit Data Input.The 4-bit data word present on these pins is multiplexed into a high-speed serial stream and output on TXDOUT. The bit order for transmit multiplexing is selected by the TXMSBSEL (See Datasheet)", J1 TXDOUT- (out) "Differential High-Speed Transmit Data Output.The 4-bit word input on TXDIN[3:0] is multiplexed into a high-speed serial stream that is output on the TXDOUT pins. The bit order for transmit multiplexing is selected by the (See Datasheet)", J9 TXDIN1+ (in) "Differential Parallel Transmit Data Input.The 4-bit data word present on these pins is multiplexed into a high-speed serial stream and output on TXDOUT. The bit order for transmit multiplexing is selected by the TXMSBSEL (See Datasheet)", J10 TXDIN0+ (in) "Differential Parallel Transmit Data Input.The 4-bit data word present on these pins is multiplexed into a high-speed serial stream and output on TXDOUT. The bit order for transmit multiplexing is selected by the TXMSBSEL (See Datasheet)", K9 TXDIN1- (in) "Differential Parallel Transmit Data Input.The 4-bit data word present on these pins is multiplexed into a high-speed serial stream and output on TXDOUT. The bit order for transmit multiplexing is selected by the TXMSBSEL (See Datasheet)", K10 TXDIN0- (in) "Differential Parallel Transmit Data Input.The 4-bit data word present on these pins is multiplexed into a high-speed serial stream and output on TXDOUT. The bit order for transmit multiplexing is selected by the TXMSBSEL (See Datasheet)"
part C pins: A2 PHASEADJ (in) "Sampling Phase Adjust.Applying an analog voltage to this pin allows adjustment of the sampling phase across the data eye.Tieing this input to VREF nominally centers the sampling phase.", A3 SLICELVL (in) "Slicing Level Adjustment.Applying an analog voltage to this pin allows adjustment of the slicing level applied to the input data eye.Tying this input to VREF sets the slicing offset to 0.", A4 RXREXT (in) "Receiver External Bias Resistor.This resistor is used by the receiver circuitry to establish bias currents within the device. This pin must be connected to GND through a 3.09 kohm (1%)resistor", A5 ~{RXSQLCH} (in) "Receiver Data Squelch.When this input is low, the data on RXDOUT[3:0] is forced to a zero state. Set R\X\S\Q\L\C\H\ high for normal operation.The R\X\S\Q\L\C\H\ input is ignored when operating in Diagnostic Loopback mode (See Datasheet)", A7 RXCLK2- (out) "Differential Receiver Clock Output 2.An auxiliary output clock is provided on this pin that is equivalent to, or a submultiple of, the output word rate. The divide factor used in generating RXCLK2 is set via RXCLK2DIV.", A8 RXCLK2+ (out) "Differential Receiver Clock Output 2.An auxiliary output clock is provided on this pin that is equivalent to, or a submultiple of, the output word rate. The divide factor used in generating RXCLK2 is set via RXCLK2DIV.", B3 LOSLVL (in) "LOS Threshold Level.Applying an analog voltage to this pin allows adjustment of the Threshold used to declare L\O\S\. Tieing this input to VREF disables L\O\S\ detection and forces the L\O\S\ output high.", B4 VREF (out) "Voltage Reference.The Si5110 provides an output voltage reference that can be used by an external circuit to set the LOS threshold, slicing level, or sampling phase adjustment.The equivalent resistance between this pin and (See Datasheet)", B5 RXAMPMON (out) "Receiver Amplitude Monitor.The RXAMPMON output provides an analog output signal that is proportional to the input signal amplitude. See Equation 1 for the relationship between RXAMPON and RXDIN. This signal is active when (See Datasheet)", B7 RXCLK1- (out) "Differential Receiver Clock Output 1.The clock recovered from the signal present on RXDIN is divided down to the parallel output word rate and output on RXCLK1. In the absence of data, a stable clock on RXCLK1 can be (See Datasheet)", B8 RXCLK1+ (out) "Differential Receiver Clock Output 1.The clock recovered from the signal present on RXDIN is divided down to the parallel output word rate and output on RXCLK1. In the absence of data, a stable clock on RXCLK1 can be (See Datasheet)", C3 ~{RXLOL} (out) "Receiver Loss-of-Lock.This output is asserted (driven low) when the recovered clock frequency deviates from the reference clock by the amount specified in Table 5 on page 9.", C4 ~{LTR} (in) "Lock-to-Reference.When the L\T\R\ input is set low, the receiver PLL will lock to the selected reference clock. This function can be used to force a stable output clock on the RXCLK1 and RXCLK2 outputs when no valid input (See Datasheet)", C6 SLICEMODE (in) "Slice Level Adjustment Mode.The SLICEMODE input is used to select the mode of operation for slicing level adjustment. When SLICEMODE = 0, Absolute Slice mode is selected. When SLICEMODE = 1, Proportional Slice mode is (See Datasheet)", C7 ~{RXCLK2DSBL} (in) "RXCLK2 Disable.Setting this input low disables the RXCLK2 output.This saves power in applications that do not require an auxiliary clock.Note: This input has an internal pullup", C8 ~{RXCLK2DIV} (in) "RXCLK2 Clock Divider Select.This input selects the divide factor used to generate the RXCLK2 output. When this input is driven high,RXCLK2 is equal to the output word rate on RXDOUT.When driven low, RXCLK2 is 1/4th the (See Datasheet)", D2 ~{LOS} (out) "Loss-of-Signal.This output is asserted (driven low) when the peak-topeak signal amplitude on RXDIN is below the threshold set via LOSLVL.", D3 ~{RXCLK1DSBL} (in) "RXCLK1 Disable.Setting this input low disables the RXCLK1 output.This is used to save power in applications that do not require the primary output clock.Note: This input has an internal pullup", D8 RXMSBSEL (in) "Receive Data Bus Bit Order Select.This input determines the order of the received data bits on the RXDOUT[3:0] output bus.For RXMSBSEL = 0, the first data bit received is output on RXDOUT0 and following data bits are output (See Datasheet)", E1 TXCLKOUT+ (out) "High-Speed Transmit Clock Output.The high-speed clock output, TXCLKOUT, is generated by the PLL in the transmit clock multiplier unit. Its frequency is nominally 16 times or 32 times the selected reference source.", E3 ~{RESET} (in) "Device Reset.Forcing this input low for at least 1 ?s causes a device reset. For normal operation, this pin should be held high.Note: This input has an internal pullup.", E10 REFCLK+ (in) "Differential Reference Clock.This input is used as the Si5110 reference clock when the REFSEL input is set high (REFSEL = 1). The reference clock sets the operating frequency of the Si5110 transmit CMU, which is used to (See Datasheet)", F1 TXCLKOUT- (out) "High-Speed Transmit Clock Output.The high-speed clock output, TXCLKOUT, is generated by the PLL in the transmit clock multiplier unit. Its frequency is nominally 16 times or 32 times the selected reference source.", F3 REFRATE (in) "Reference Clock Rate Select.The REFRATE input sets the frequency for the REFCLK input. When REFRATE is set high, the REFCLK frequency is 1/16th the serial data rate (nominally 155 MHz). When REFRATE is set low, the REFCLK (See Datasheet)", F10 REFCLK- (in) "Differential Reference Clock.This input is used as the Si5110 reference clock when the REFSEL input is set high (REFSEL = 1). The reference clock sets the operating frequency of the Si5110 transmit CMU, which is used to (See Datasheet)", G8 ~{LPTM} (in) "Loop Timed Operation. When this input is set low, the recovered clock from the receiver is divided down and used as the reference source for the transmit CMU. The narrowband setting for the DSPLL CMU is sufficient to provide (See Datasheet)", H3 BWSEL1 (in) "Transmit DSPLL Bandwidth Select.The inputs select loop bandwidth of the Transmit Clock Multiplier DSPLL as listed in Table 6.Note: Both inputs have an internal pulldown", H4 TXMSBSEL (in) "Transmit Data Bus Bit Order Select.This input determines the order in which data bits recovered on the TXDIN[3:0] bus are transmitted on the high-speed serial output TXDOUT.For TXMSBSEL = 0, data on TXDIN0 is transmitted (See Datasheet)", H5 ~{FIFORST} (in) "FIFO RESET.When this input is low, the read/write FIFO pointers are reset to their initial state.Note: This input has an internal pullup.", H6 BWSEL0 (in) "Transmit DSPLL Bandwidth Select.The inputs select loop bandwidth of the Transmit Clock Multiplier DSPLL as listed in Table 6.Note: Both inputs have an internal pulldown", H7 ~{DLBK} (in) "Diagnostic Loopback.When this input is low, the transmit clock and data are looped back for output on RXDOUT, RXCLK1 and RXCLK2. This pin should be held high for normal operation.Note: This input has an internal pullup", H8 ~{LLBK} (in) "Line Loopback.When this input is low, the recovered clock and data are looped back for output on TXDOUT, and TXCLKOUT.Set this pin high for normal operation.Note: This input has an internal pullup", J5 ~{FIFOERR} (out) "FIFO Error.This output is asserted (driven low) when a FIFO overflow/underflow has occurred. This output is low until reset by asserting FIFORST.", J6 ~{TXSQLCH} (in) "Transmit Data Squelch.When T\X\S\Q\L\C\H\ is set low, the output data stream on TXDOUT is forced to a zero state. Set T\X\S\Q\L\C\H\ high for normal operation. The T\X\S\Q\L\C\H\ input is ignored when operating in Line (See Datasheet)", J7 REFSEL (in) "Reference Clock Selection.This input selects the reference clock source to be used by the Si5110 transmitter and receiver. The reference clock sets the operating frequency of the Si5110 transmit CMU, which is used to (See Datasheet)", J8 TXCLKDSBL (in) "High-Speed Transmit Clock Disable.When this input is high, the output driver for TXCLKOUT is disabled. In applications that do not require the output data clock, the output clock driver should be disabled to save power.Note: (See Datasheet)", K3 TXREXT (in) "Transmitter External Bias Resistor.This resistor is used by the transmitter circuitry to establish bias currents within the device. This pin must be connected to GND through a 3.09 kohm (1%) resistor.", K4 ~{TXLOL} (out) "Transmit CMU Loss-of-Lock.The T\X\L\O\L\ output is asserted (low) when the CMU is not phase locked to the selected reference source or if REFCLK is not present.", K5 TXCLK4OUT- (out) "Divided Down Transmit Clock Output.This clock output is generated by dividing down the high-speed output clock, TXCLKOUT, by a factor of 4.It is intended for use in counter clocking schemes that transfer data between the (See Datasheet)", K6 TXCLK4OUT+ (out) "Divided Down Transmit Clock Output.This clock output is generated by dividing down the high-speed output clock, TXCLKOUT, by a factor of 4.It is intended for use in counter clocking schemes that transfer data between the (See Datasheet)", K7 TXCLK4IN- (in) "Differential Transmit Data Clock Input.The rising edge of this input clocks data present on TXDIN into the device. TXCLK 4IN is also used as the Si5100 reference clock when the REFSEL input is set low.", K8 TXCLK4IN+ (in) "Differential Transmit Data Clock Input.The rising edge of this input clocks data present on TXDIN into the device. TXCLK 4IN is also used as the Si5100 reference clock when the REFSEL input is set low."
part D pins: D4 VDD (power) "Supply Voltage.Nominally 1.8 V.", D5 VDD (power) "Supply Voltage.Nominally 1.8 V.", D6 VDD (power) "Supply Voltage.Nominally 1.8 V.", D7 VDD (power) "Supply Voltage.Nominally 1.8 V.", E4 VDD (power) "Supply Voltage.Nominally 1.8 V.", E5 VDD (power) "Supply Voltage.Nominally 1.8 V.", E6 VDD (power) "Supply Voltage.Nominally 1.8 V.", F4 VDD (power) "Supply Voltage.Nominally 1.8 V.", F5 VDD (power) "Supply Voltage.Nominally 1.8 V.", F6 VDD (power) "Supply Voltage.Nominally 1.8 V.", G2 VDDIO (power) "LVTTL I/O Supply Voltage.Connect to either 1.8 or 3.3 V. When connected to 3.3 V, LVTTL compatible voltage swings are supported on the LVTTL inputs and LVTTL outputs of the device.", G4 VDD (power) "Supply Voltage.Nominally 1.8 V.", G5 VDD (power) "Supply Voltage.Nominally 1.8 V.", G6 VDD (power) "Supply Voltage.Nominally 1.8 V.", G7 VDD (power) "Supply Voltage.Nominally 1.8 V."
part E pins: A6 RSVD_GND (power) "Reserved Tie To Ground.Must be connected directly to GND for proper operation.", B2 GND (power) "Supply Ground.Connect to system GND. Ensure a very low impedance path for optimal performance", B6 RSVD_GND (power) "Reserved Tie To Ground.Must be connected directly to GND for proper operation.", C2 GND (power) "Supply Ground.Connect to system GND. Ensure a very low impedance path for optimal performance", C5 RSVD_GND (power) "Reserved Tie To Ground.Must be connected directly to GND for proper operation.", D1 GND (power) "Supply Ground.Connect to system GND. Ensure a very low impedance path for optimal performance", E2 GND (power) "Supply Ground.Connect to system GND. Ensure a very low impedance path for optimal performance", E7 GND (power) "Supply Ground.Connect to system GND. Ensure a very low impedance path for optimal performance", E8 GND (power) "Supply Ground.Connect to system GND. Ensure a very low impedance path for optimal performance", E9 GND (power) "Supply Ground.Connect to system GND. Ensure a very low impedance path for optimal performance", F2 GND (power) "Supply Ground.Connect to system GND. Ensure a very low impedance path for optimal performance", F7 GND (power) "Supply Ground.Connect to system GND. Ensure a very low impedance path for optimal performance", F8 GND (power) "Supply Ground.Connect to system GND. Ensure a very low impedance path for optimal performance", F9 GND (power) "Supply Ground.Connect to system GND. Ensure a very low impedance path for optimal performance", G1 GND (power) "Supply Ground.Connect to system GND. Ensure a very low impedance path for optimal performance", G3 RSVD_GND (power) "Reserved Tie To Ground.Must be connected directly to GND for proper operation.", H2 GND (power) "Supply Ground.Connect to system GND. Ensure a very low impedance path for optimal performance", J2 GND (power) "Supply Ground.Connect to system GND. Ensure a very low impedance path for optimal performance", J3 RSVD_GND (power) "Reserved Tie To Ground.Must be connected directly to GND for proper operation.", J4 RSVD_GND (power) "Reserved Tie To Ground.Must be connected directly to GND for proper operation.", K1 GND (power) "Supply Ground.Connect to system GND. Ensure a very low impedance path for optimal performance", K2 RSVD_GND (power) "Reserved Tie To Ground.Must be connected directly to GND for proper operation."

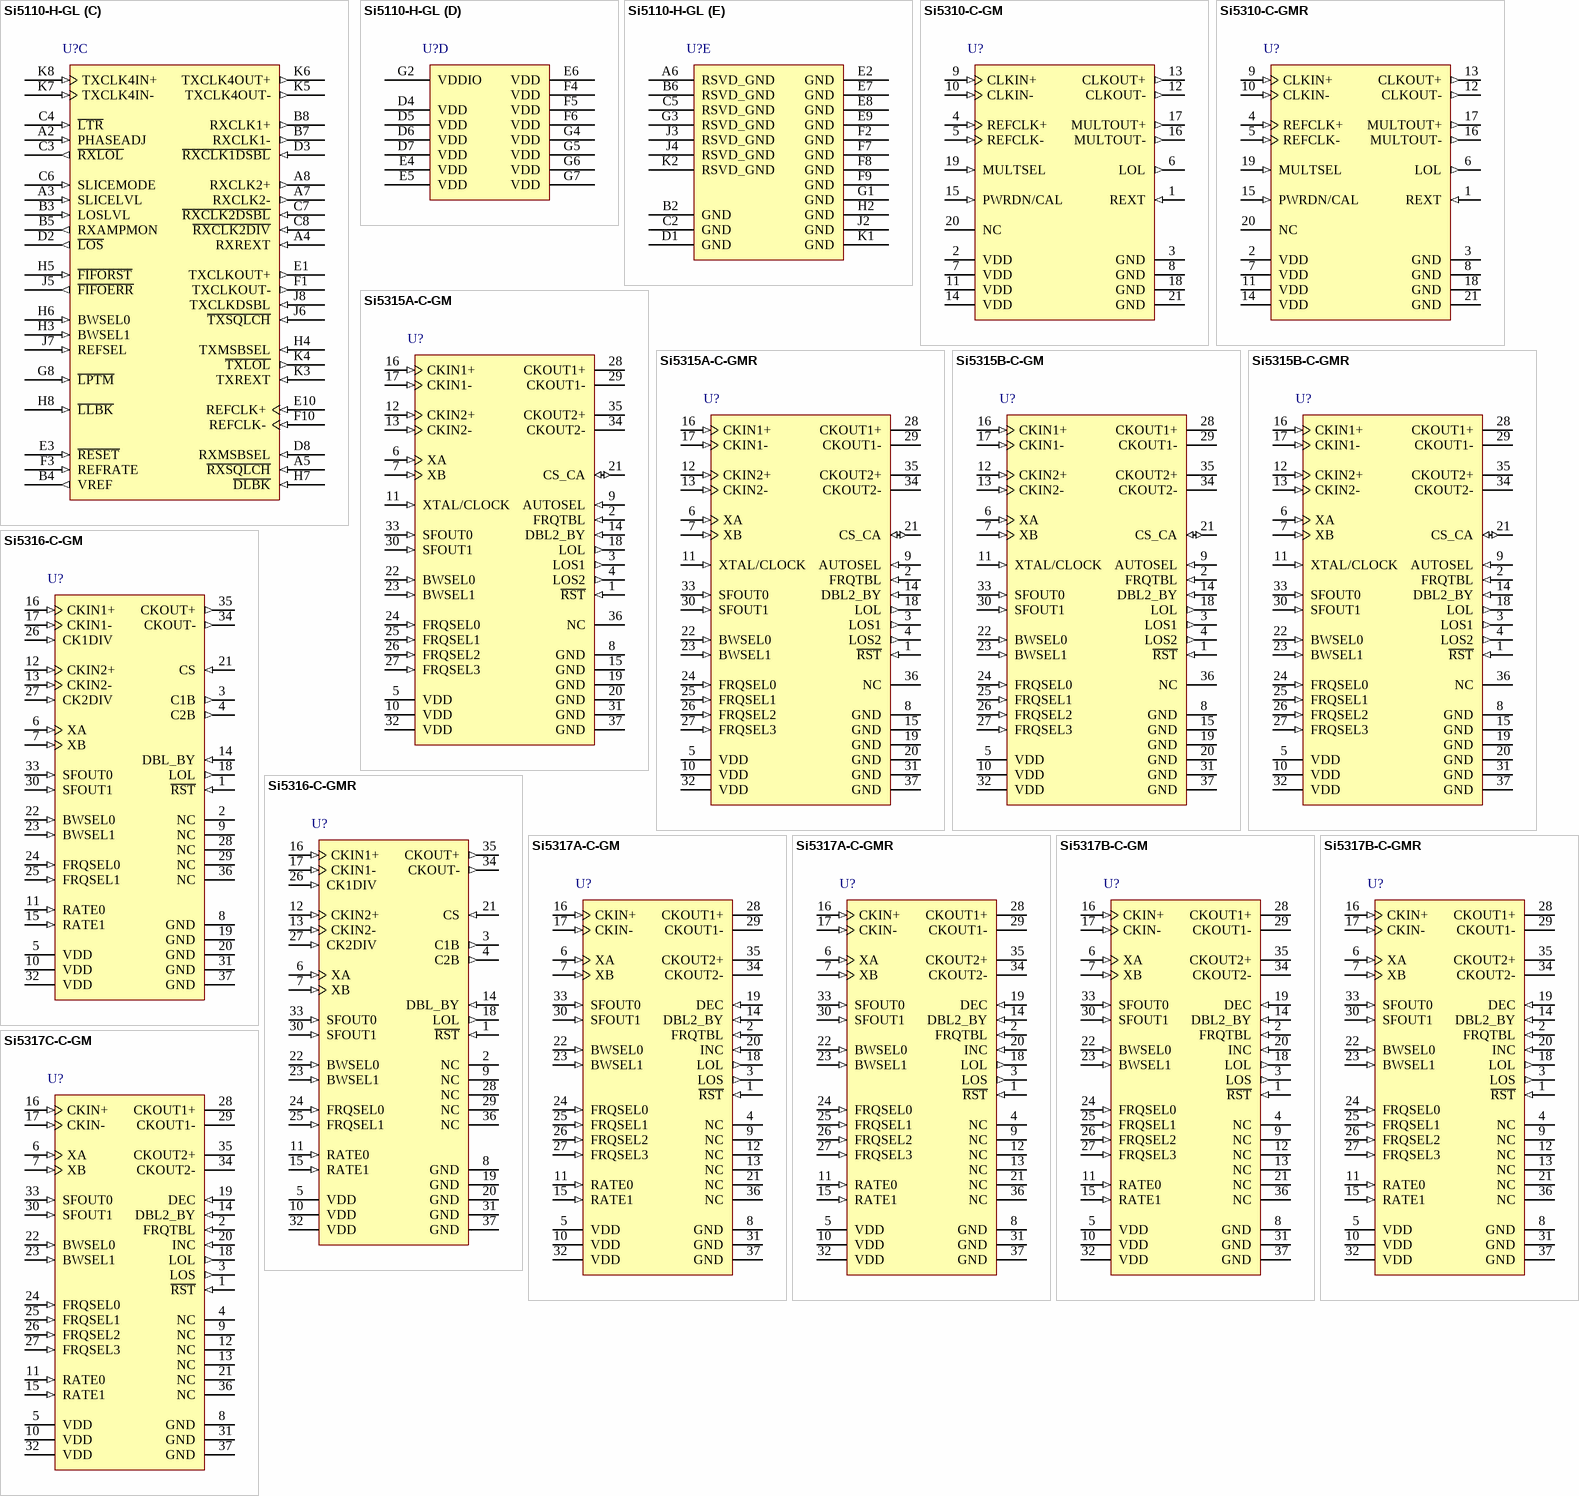
[diagram p11: symbols Si5110-H-GL to Si5317C-C-GM]